# EAGLE library part EOS26_EOS34_CHIP_BREAKOUT (library isg-quantum-photonics-mainboard-rev1)
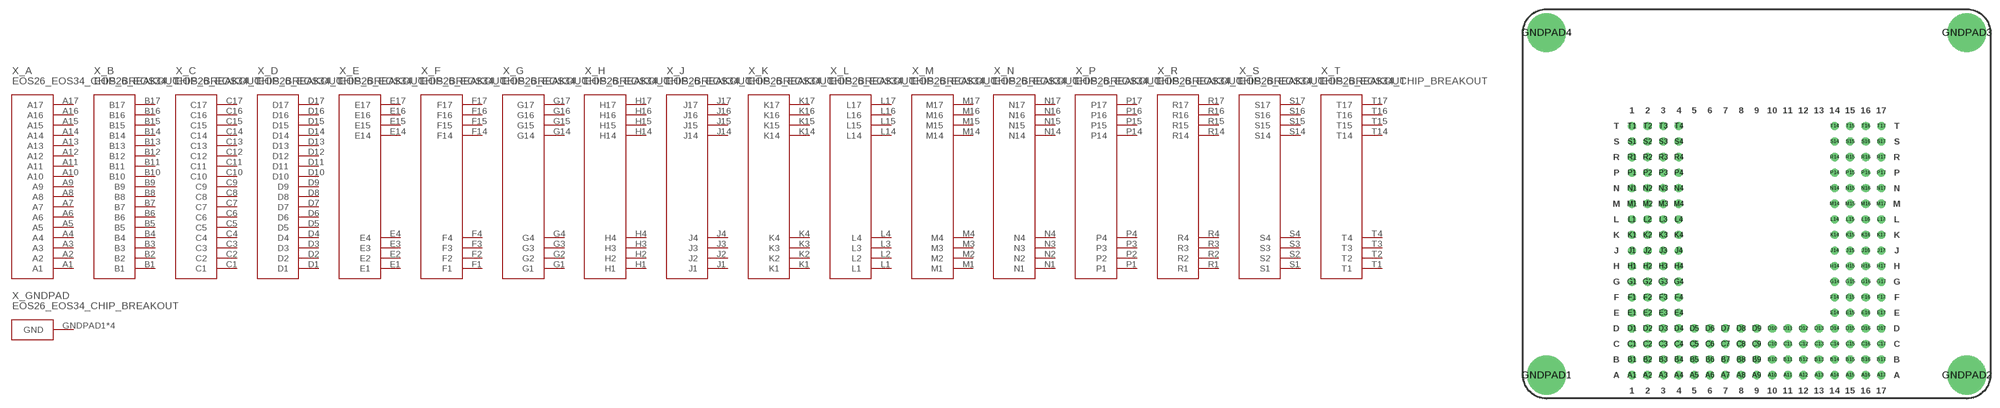
[diagram p0: symbol with the pads of EOS26_EOS34_CHIP_BREAKOUT; footprint EOS26_EOS34_CHIP_BREAKOUT]

Designator prefix X; gates _A=PGA208_HS_A _B=PGA208_HS_B _C=PGA208_HS_C _D=PGA208_HS_D _E=PGA208_HS_E _F=PGA208_HS_F _G=PGA208_HS_G _H=PGA208_HS_H _J=PGA208_HS_J _K=PGA208_HS_K _L=PGA208_HS_L _M=PGA208_HS_M _N=PGA208_HS_N _P=PGA208_HS_P _R=PGA208_HS_R _S=PGA208_HS_S _GNDPAD=GNDPAD _T=PGA208_HS_T

## EOS26_EOS34_CHIP_BREAKOUT (VALUE: EOS26_EOS34_CHIP_BREAKOUT)  [EOS26_EOS34_CHIP_BREAKOUT]
A1  _A:A1
A2  _A:A2
A3  _A:A3
A4  _A:A4
A5  _A:A5
A6  _A:A6
A7  _A:A7
A8  _A:A8
A9  _A:A9
A10  _A:A10
A11  _A:A11
A12  _A:A12
A13  _A:A13
A14  _A:A14
A15  _A:A15
A16  _A:A16
A17  _A:A17
B1  _B:B1
B2  _B:B2
B3  _B:B3
B4  _B:B4
B5  _B:B5
B6  _B:B6
B7  _B:B7
B8  _B:B8
B9  _B:B9
B10  _B:B10
B11  _B:B11
B12  _B:B12
B13  _B:B13
B14  _B:B14
B15  _B:B15
B16  _B:B16
B17  _B:B17
C1  _C:C1
C2  _C:C2
C3  _C:C3
C4  _C:C4
C5  _C:C5
C6  _C:C6
C7  _C:C7
C8  _C:C8
C9  _C:C9
C10  _C:C10
C11  _C:C11
C12  _C:C12
C13  _C:C13
C14  _C:C14
C15  _C:C15
C16  _C:C16
C17  _C:C17
D1  _D:D1
D2  _D:D2
D3  _D:D3
D4  _D:D4
D5  _D:D5
D6  _D:D6
D7  _D:D7
D8  _D:D8
D9  _D:D9
D10  _D:D10
D11  _D:D11
D12  _D:D12
D13  _D:D13
D14  _D:D14
D15  _D:D15
D16  _D:D16
D17  _D:D17
E1  _E:E1
E2  _E:E2
E3  _E:E3
E4  _E:E4
E14  _E:E14
E15  _E:E15
E16  _E:E16
E17  _E:E17
F1  _F:F1
F2  _F:F2
F3  _F:F3
F4  _F:F4
F14  _F:F14
F15  _F:F15
F16  _F:F16
F17  _F:F17
G1  _G:G1
G2  _G:G2
G3  _G:G3
G4  _G:G4
G14  _G:G14
G15  _G:G15
G16  _G:G16
G17  _G:G17
GNDPAD1  _GNDPAD:GND
GNDPAD2  _GNDPAD:GND
GNDPAD3  _GNDPAD:GND
GNDPAD4  _GNDPAD:GND
H1  _H:H1
H2  _H:H2
H3  _H:H3
H4  _H:H4
H14  _H:H14
H15  _H:H15
H16  _H:H16
H17  _H:H17
J1  _J:J1
J2  _J:J2
J3  _J:J3
J4  _J:J4
J14  _J:J14
J15  _J:J15
J16  _J:J16
J17  _J:J17
K1  _K:K1
K2  _K:K2
K3  _K:K3
K4  _K:K4
K14  _K:K14
K15  _K:K15
K16  _K:K16
K17  _K:K17
L1  _L:L1
L2  _L:L2
L3  _L:L3
L4  _L:L4
L14  _L:L14
L15  _L:L15
L16  _L:L16
L17  _L:L17
M1  _M:M1
M2  _M:M2
M3  _M:M3
M4  _M:M4
M14  _M:M14
M15  _M:M15
M16  _M:M16
M17  _M:M17
N1  _N:N1
N2  _N:N2
N3  _N:N3
N4  _N:N4
N14  _N:N14
N15  _N:N15
N16  _N:N16
N17  _N:N17
P1  _P:P1
P2  _P:P2
P3  _P:P3
P4  _P:P4
P14  _P:P14
P15  _P:P15
P16  _P:P16
P17  _P:P17
R1  _R:R1
R2  _R:R2
R3  _R:R3
R4  _R:R4
R14  _R:R14
R15  _R:R15
R16  _R:R16
R17  _R:R17
S1  _S:S1
S2  _S:S2
S3  _S:S3
S4  _S:S4
S14  _S:S14
S15  _S:S15
S16  _S:S16
S17  _S:S17
T1  _T:T1
T2  _T:T2
T3  _T:T3
T4  _T:T4
T14  _T:T14
T15  _T:T15
T16  _T:T16
T17  _T:T17

## Footprint EOS26_EOS34_CHIP_BREAKOUT (pad centres in mm)
drill 0.813: A1 -20.32,-27.94; A2 -17.78,-27.94; A3 -15.24,-27.94; A4 -12.7,-27.94; A5 -10.16,-27.94; A6 -7.62,-27.94; A7 -5.08,-27.94; A8 -2.54,-27.94; A9 0,-27.94; A10 2.54,-27.94; A11 5.08,-27.94; A12 7.62,-27.94; A13 10.16,-27.94; A14 12.7,-27.94; A15 15.24,-27.94; A16 17.78,-27.94; A17 20.32,-27.94; B1 -20.32,-25.4; B2 -17.78,-25.4; B3 -15.24,-25.4; B4 -12.7,-25.4; B5 -10.16,-25.4; B6 -7.62,-25.4; B7 -5.08,-25.4; B8 -2.54,-25.4; B9 0,-25.4; B10 2.54,-25.4; B11 5.08,-25.4; B12 7.62,-25.4; B13 10.16,-25.4; B14 12.7,-25.4; B15 15.24,-25.4; B16 17.78,-25.4; B17 20.32,-25.4; C1 -20.32,-22.86; C2 -17.78,-22.86; C3 -15.24,-22.86; C4 -12.7,-22.86; C5 -10.16,-22.86; C6 -7.62,-22.86; C7 -5.08,-22.86; C8 -2.54,-22.86; C9 0,-22.86; C10 2.54,-22.86; C11 5.08,-22.86; C12 7.62,-22.86; C13 10.16,-22.86; C14 12.7,-22.86; C15 15.24,-22.86; C16 17.78,-22.86; C17 20.32,-22.86; D1 -20.32,-20.32; D2 -17.78,-20.32; D3 -15.24,-20.32; D4 -12.7,-20.32; D5 -10.16,-20.32; D6 -7.62,-20.32; D7 -5.08,-20.32; D8 -2.54,-20.32; D9 0,-20.32; D10 2.54,-20.32; D11 5.08,-20.32; D12 7.62,-20.32; D13 10.16,-20.32; D14 12.7,-20.32; D15 15.24,-20.32; D16 17.78,-20.32; D17 20.32,-20.32; E1 -20.32,-17.78; E2 -17.78,-17.78; E3 -15.24,-17.78; E4 -12.7,-17.78; E14 12.7,-17.78; E15 15.24,-17.78; E16 17.78,-17.78; E17 20.32,-17.78; F1 -20.32,-15.24; F2 -17.78,-15.24; F3 -15.24,-15.24; F4 -12.7,-15.24; F14 12.7,-15.24; F15 15.24,-15.24; F16 17.78,-15.24; F17 20.32,-15.24; G1 -20.32,-12.7; G2 -17.78,-12.7; G3 -15.24,-12.7; G4 -12.7,-12.7; G14 12.7,-12.7; G15 15.24,-12.7; G16 17.78,-12.7; G17 20.32,-12.7; H1 -20.32,-10.16; H2 -17.78,-10.16; H3 -15.24,-10.16; H4 -12.7,-10.16; H14 12.7,-10.16; H15 15.24,-10.16; H16 17.78,-10.16; H17 20.32,-10.16; J1 -20.32,-7.62; J2 -17.78,-7.62; J3 -15.24,-7.62; J4 -12.7,-7.62; J14 12.7,-7.62; J15 15.24,-7.62; J16 17.78,-7.62; J17 20.32,-7.62; K1 -20.32,-5.08; K2 -17.78,-5.08; K3 -15.24,-5.08; K4 -12.7,-5.08; K14 12.7,-5.08; K15 15.24,-5.08; K16 17.78,-5.08; K17 20.32,-5.08; L1 -20.32,-2.54; L2 -17.78,-2.54; L3 -15.24,-2.54; L4 -12.7,-2.54; L14 12.7,-2.54; L15 15.24,-2.54; L16 17.78,-2.54; L17 20.32,-2.54; M1 -20.32,0; M2 -17.78,0; M3 -15.24,0; M4 -12.7,0; M14 12.7,0; M15 15.24,0; M16 17.78,0; M17 20.32,0; N1 -20.32,2.54; N2 -17.78,2.54; N3 -15.24,2.54; N4 -12.7,2.54; N14 12.7,2.54; N15 15.24,2.54; N16 17.78,2.54; N17 20.32,2.54; P1 -20.32,5.08; P2 -17.78,5.08; P3 -15.24,5.08; P4 -12.7,5.08; P14 12.7,5.08; P15 15.24,5.08; P16 17.78,5.08; P17 20.32,5.08; R1 -20.32,7.62; R2 -17.78,7.62; R3 -15.24,7.62; R4 -12.7,7.62; R14 12.7,7.62; R15 15.24,7.62; R16 17.78,7.62; R17 20.32,7.62; S1 -20.32,10.16; S2 -17.78,10.16; S3 -15.24,10.16; S4 -12.7,10.16; S14 12.7,10.16; S15 15.24,10.16; S16 17.78,10.16; S17 20.32,10.16; T1 -20.32,12.7; T2 -17.78,12.7; T3 -15.24,12.7; T4 -12.7,12.7; T14 12.7,12.7; T15 15.24,12.7; T16 17.78,12.7; T17 20.32,12.7
drill 3.81 pad 6.35: GNDPAD1 -34.29,-27.94; GNDPAD2 34.29,-27.94; GNDPAD3 34.29,27.94; GNDPAD4 -34.29,27.94